# Altium footprint library WiirdFlex.PcbLib: 79 footprints (part 4 of 5)
Each footprint in its own frame and in the unit in brackets; x right, y up, seen from the top. Pads: shape width x height; smd on the part's side, far side on the other; paste and mask are expansions set on the pad; w line width, h text height; cw(c..) or ccw(c..) is an arc to the next point about the centre after c.
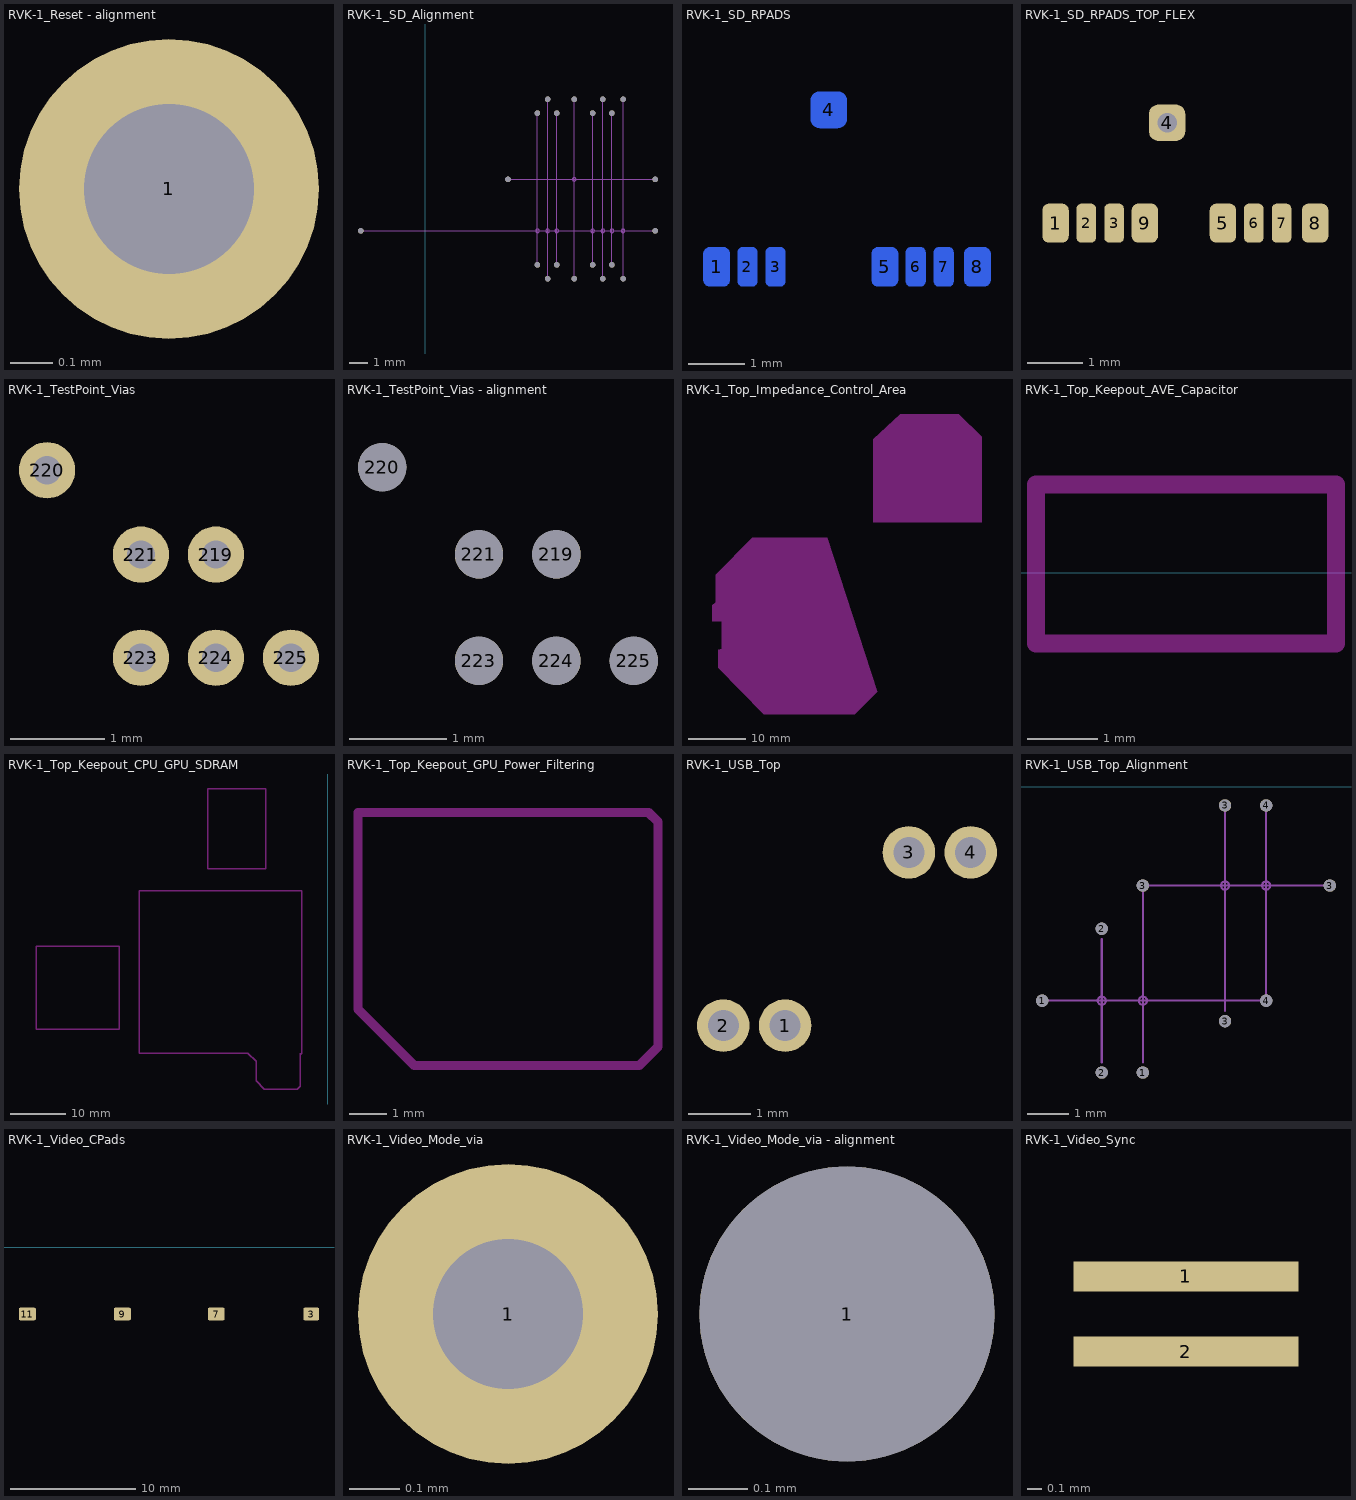
[diagram p3: the footprints below, top view; thin cyan lines are the x and y axes]

## RVK-1_Reset - alignment [mm]
pads (1):
  round 0.705 hole 0.4: 1(-7.5,25)

## RVK-1_SD_Alignment [mm] "alignment check footprint for SD target pads"
pads (20):
  round 0.3 hole 0.3 unplated: 1(-3.5,33.1) 1(6.1,31.25) 1(6.1,39.5) 1(12.5,33.1) 2(6.65,30.5) 2(6.65,40.25) 3(7.15,31.25) 3(7.15,39.5) 4(4.5,35.9) 4(8.1,30.5) 4(8.1,40.25) 4(12.5,35.9) 5(9.1,31.25) 5(9.1,39.5) 6(9.65,30.5) 6(9.65,40.25) 7(10.15,31.25) 7(10.15,39.5) 8(10.75,30.5) 8(10.75,40.25)
Mechanical 1:
  circle w0.05: c10.75,33.1 r0.1
  circle w0.05: c9.65,33.1 r0.1
  circle w0.05: c8.1,35.9 r0.1
  circle w0.05: c6.65,33.1 r0.1
  circle w0.05: c10.15,33.1 r0.1
  circle w0.05: c9.1,33.1 r0.1
  circle w0.05: c7.15,33.1 r0.1
  circle w0.05: c6.1,33.1 r0.1
  lines w0.05: -3.5,33.1 12.5,33.1 ; 4.5,35.9 12.5,35.9 ; 6.1,31.25 6.1,39.5 ; 6.65,30.5 6.65,40.25 ; 7.15,31.25 7.15,39.5 ; 8.1,30.5 8.1,40.25 ; 9.1,31.25 9.1,39.5 ; 9.65,30.5 9.65,40.25 ; 10.15,31.25 10.15,39.5 ; 10.75,30.5 10.75,40.25

## RVK-1_SD_RPADS [mm] "Direct pad-to-pad interface to SD lines by replacing terminating resistors"
pads (8):
  rrect50% 0.475x0.7 smd far side: 1(6.1,33.1) 5(9.1,33.1) 8(10.75,33.1)
  rrect50% 0.35x0.7 smd far side: 2(6.65,33.1) 3(7.15,33.1) 6(9.65,33.1) 7(10.15,33.1)
  rrect50% 0.65x0.65 smd far side: 4(8.1,35.9)

## RVK-1_SD_RPADS_TOP_FLEX [mm] "Interface to SD lines as used in top flex"
pads (9):
  rrect50% 0.475x0.7 smd mask-1: 1(6.1,34.1) 5(9.1,34.1) 8(10.75,34.1) 9(7.7,34.1)
  rrect50% 0.35x0.7 smd mask-1: 2(6.65,34.1) 3(7.15,34.1) 6(9.65,34.1) 7(10.15,34.1)
  rrect50% 0.65x0.65 hole 0.35: 4(8.1,35.9)
Top Solder:
  region: 5.775,33.2 5.775,34.275 5.775,34.29 5.786,34.318 5.807,34.339 5.835,34.35 5.85,34.35 11.05,34.35 11.065,34.35 11.092,34.339 11.114,34.317 11.125,34.29 11.125,34.275 11.125,33.2

## RVK-1_TestPoint_Vias [mm] "Vias near GPU associated with some test points on top layer"
pads (6):
  round 0.6 hole 0.3: 219(-2.7,16.95) 220(-4.5,17.85) 221(-3.5,16.95) 223(-3.5,15.85) 224(-2.7,15.85) 225(-1.9,15.85)

## RVK-1_TestPoint_Vias - alignment [mm] "Vias near GPU associated with some test points on top layer"
pads (6):
  round 0.5 hole 0.5 unplated: 219(-2.7,16.95) 220(-4.5,17.85) 221(-3.5,16.95) 223(-3.5,15.85) 224(-2.7,15.85) 225(-1.9,15.85)

## RVK-1_Top_Impedance_Control_Area [mm] "Optional footprint providing keep-outs for the impedance-controlled signal area around the main Wii chips on the top side of the board"
Top Layer keep-out:
  region: -26,39.3 -26,53.9 -21.3,58.3 -11,58.3 -7,54.3 -7,39.3
  region: -47.2,36.6 -53.6,30.1 -53.6,25.3 -54.2,24.8 -54.2,22 -52.6,22 -52.6,17.1 -53.2,17 -53.2,13.8 -45.2,5.7 -29.2,5.7 -25.3,9.6 -34.1,36.6

## RVK-1_Top_Keepout_AVE_Capacitor [mm]
Keep-Out Layer:
  lines w0.254: -11.25,-1 -11.25,1.25 -7,1.25 -7,-1 -11.25,-1

## RVK-1_Top_Keepout_CPU_GPU_SDRAM [mm]
Keep-Out Layer:
  lines w0.25: -5,9.75 -4.75,10 -4.75,39.5 -34.25,39.5 -34.25,10 -14.5,10 -13,8.5 -13,5 -11.5,3.5 -5.5,3.5 -5,4 -5,10 ; -52.9,14.4 -37.9,14.4 -37.9,29.4 -52.9,29.4 -52.9,14.4 ; -21.75,43.5 -21.75,58 -11.25,58 -11.25,43.5 -21.75,43.5

## RVK-1_Top_Keepout_GPU_Power_Filtering [mm]
Keep-Out Layer:
  lines w0.25: -13,5 -11.5,3.5 -5.5,3.5 -5,4 -5,10 -5.25,10.25 -13,10.25 -13,8.5 -13,5

## RVK-1_USB_Top [mm] "USB vias, the easiest way to access USB from the top side.  This is upstream of ESD protection."
pads (4):
  round 0.85 hole 0.5: 1(3.95,-5.25) 2(2.95,-5.25) 3(5.95,-2.45) 4(6.95,-2.45)

## RVK-1_USB_Top_Alignment [mm] "alignment test footprint for USB vias"
pads (10):
  round 0.3 hole 0.3 unplated: 1(1.45,-5.2) 1(3.9,-6.95) 2(2.9,-6.95) 2(2.9,-3.45) 3(3.9,-2.4) 3(5.9,-5.7) 3(5.9,-0.45) 3(8.45,-2.4) 4(6.9,-5.2) 4(6.9,-0.45)
Mechanical 1:
  circle w0.05: c6.9,-2.4 r0.1
  circle w0.05: c5.9,-2.4 r0.1
  circle w0.05: c3.9,-5.2 r0.1
  circle w0.05: c2.9,-5.2 r0.1
  lines w0.05: 1.45,-5.2 6.95,-5.2 ; 2.9,-6.7 2.9,-3.7 ; 3.9,-6.7 3.9,-2.4 ; 3.95,-2.4 8.45,-2.4 ; 5.9,-5.45 5.9,-0.45 ; 6.9,-5.2 6.9,-0.45

## RVK-1_Video_CPads [mm]
pads (4):
  rrect20% 1.25x1 smd: 3(-6.15,-5.35)
  rrect20% 1.35x1 smd: 7(-13.75,-5.35) 9(-21.25,-5.35) 11(-28.85,-5.35)

## RVK-1_Video_Mode_via [mm]
pads (1):
  round 0.6 hole 0.3: 1(-21.5,13.95)

## RVK-1_Video_Mode_via - alignment [mm]
pads (1):
  round 0.5 hole 0.5 unplated: 1(-21.5,13.95)

## RVK-1_Video_Sync [mm]
pads (2):
  rrect2% 1.5x0.2 smd: 1(-8.75,3.65) 2(-8.75,3.15)